# Altium footprint library MD_DCDC_15W_TH.PcbLib: 1 footprints
Each footprint in its own frame and in the unit in brackets; x right, y up, seen from the top. Pads: shape width x height; smd on the part's side, far side on the other; paste and mask are expansions set on the pad; w line width, h text height; cw(c..) or ccw(c..) is an arc to the next point about the centre after c.
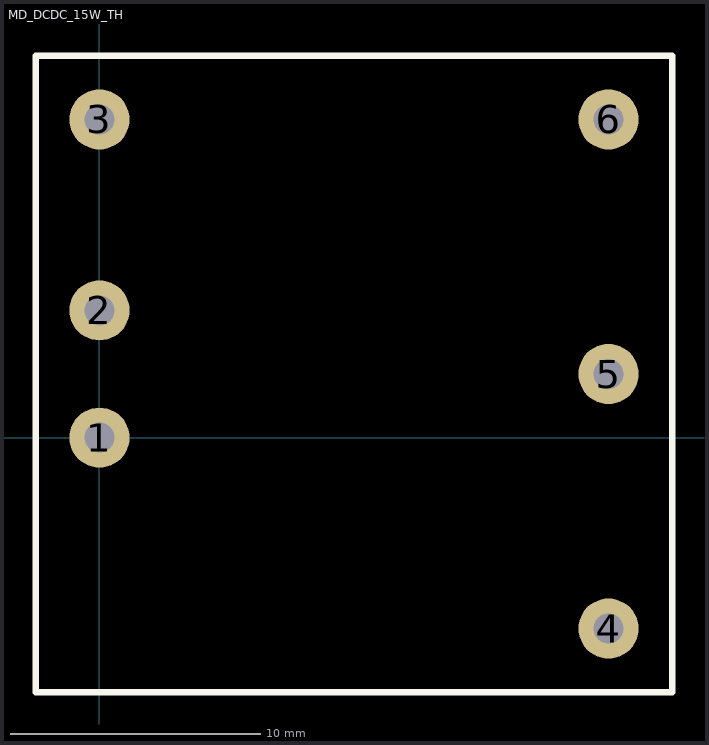
[diagram p0: the footprint, top view; thin cyan lines are the x and y axes]

## MD_DCDC_15W_TH [mm] "15W DC/DC converter, through hole, Power Mate"
height 9.906
pads (6):
  round 2.4 hole 1.2: 1(0,0) 2(0,5.08) 3(0,12.7) 4(20.32,-7.62) 5(20.32,2.54) 6(20.32,12.7)
Top Overlay:
  lines w0.254: -2.54,-10.16 -2.54,15.24 22.86,15.24 22.86,-10.16 -2.54,-10.16
3D body: height -0.14, standoff -5.74, extent -0.488,12.192 0.508,13.19
3D body: height 9.91, standoff 0, extent -2.667,-10.287 22.987,15.367
3D body: height -0.14, standoff -5.74, extent 19.824,12.201 20.82,13.199
3D body: height -0.14, standoff -5.74, extent 19.824,2.041 20.82,3.039
3D body: height -0.14, standoff -5.74, extent 19.824,-8.119 20.82,-7.121
3D body: height -0.14, standoff -5.74, extent -0.496,-0.499 0.5,0.499
3D body: height -0.14, standoff -5.74, extent -0.496,4.581 0.5,5.579
3D body: height -0.14, standoff -5.74, extent -0.496,12.201 0.5,13.199